# EAGLE library part XC7Z010 (library Bits_library_eagle 9x)
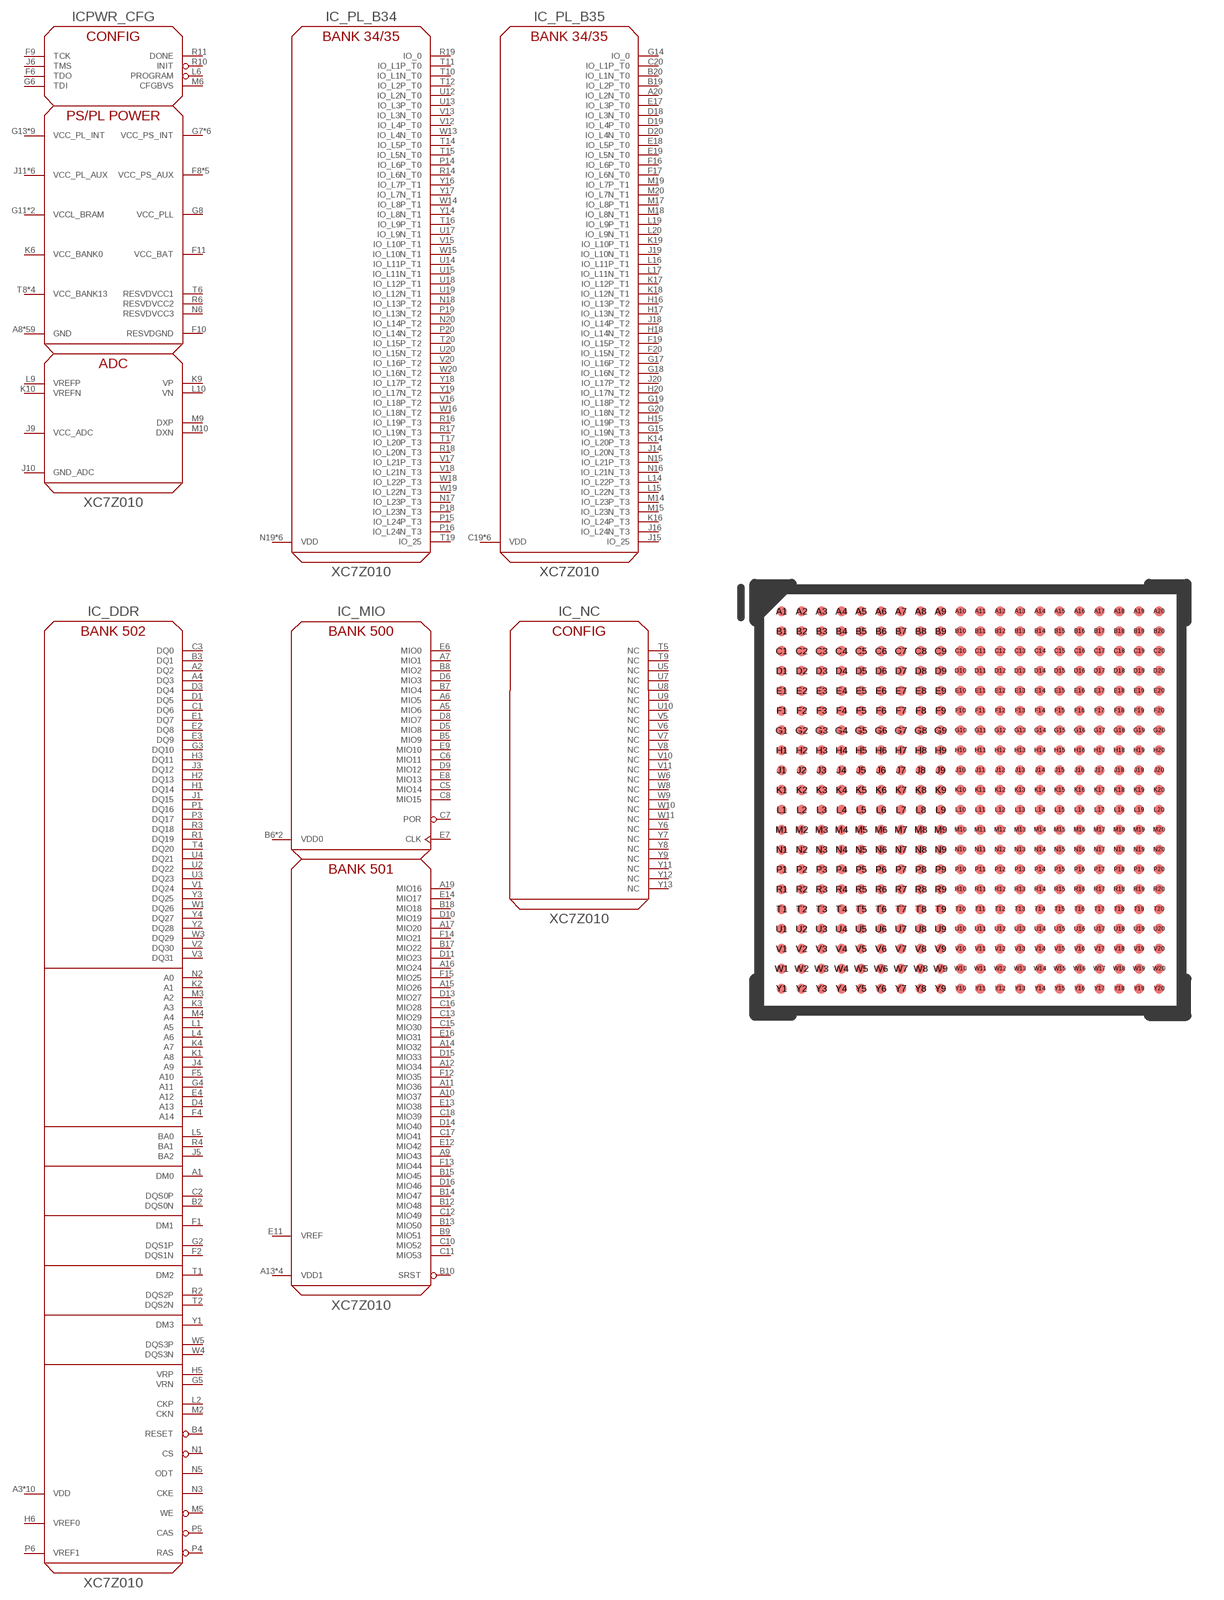
[diagram p84: symbol with the pads of CLG400; footprint CLG400]

Designator prefix IC; gates PWR_CFG=XC7Z010 _PL_B34=XC7Z010-PL_IO34 _DDR=XC7Z010-PS_DDR _MIO=XC7Z010-PS_MIO _PL_B35=XC7Z010-PL_IO34 _NC=XC7Z010-NC

## XC7Z010CLG400  [CLG400]
A1  _DDR:DM0
A2  _DDR:DQ2
A3  _DDR:VDD  pwr
A4  _DDR:DQ3
A5  _MIO:MIO6
A6  _MIO:MIO5
A7  _MIO:MIO1
A8  PWR_CFG:GND  pwr
A9  _MIO:MIO43
A10  _MIO:MIO37
A11  _MIO:MIO36
A12  _MIO:MIO34
A13  _MIO:VDD1  pwr
A14  _MIO:MIO32
A15  _MIO:MIO26
A16  _MIO:MIO24
A17  _MIO:MIO20
A18  PWR_CFG:GND  pwr
A19  _MIO:MIO16
A20  _PL_B35:IO_L2N_T0
B1  PWR_CFG:GND  pwr
B2  _DDR:DQS0N
B3  _DDR:DQ1
B4  _DDR:RESET
B5  _MIO:MIO9
B6  _MIO:VDD0  pwr
B7  _MIO:MIO4
B8  _MIO:MIO2
B9  _MIO:MIO51
B10  _MIO:SRST
B11  PWR_CFG:GND  pwr
B12  _MIO:MIO48
B13  _MIO:MIO50
B14  _MIO:MIO47
B15  _MIO:MIO45
B16  _MIO:VDD1  pwr
B17  _MIO:MIO22
B18  _MIO:MIO18
B19  _PL_B35:IO_L2P_T0
B20  _PL_B35:IO_L1N_T0
C1  _DDR:DQ6
C2  _DDR:DQS0P
C3  _DDR:DQ0
C4  PWR_CFG:GND  pwr
C5  _MIO:MIO14
C6  _MIO:MIO11
C7  _MIO:POR
C8  _MIO:MIO15
C9  PWR_CFG:GND  pwr
C10  _MIO:MIO52
C11  _MIO:MIO53
C12  _MIO:MIO49
C13  _MIO:MIO29
C14  PWR_CFG:GND  pwr
C15  _MIO:MIO30
C16  _MIO:MIO28
C17  _MIO:MIO41
C18  _MIO:MIO39
C19  _PL_B35:VDD  pwr
C20  _PL_B35:IO_L1P_T0
D1  _DDR:DQ5
D2  _DDR:VDD  pwr
D3  _DDR:DQ4
D4  _DDR:A13
D5  _MIO:MIO8
D6  _MIO:MIO3
D7  _MIO:VDD0  pwr
D8  _MIO:MIO7
D9  _MIO:MIO12
D10  _MIO:MIO19
D11  _MIO:MIO23
D12  _MIO:VDD1  pwr
D13  _MIO:MIO27
D14  _MIO:MIO40
D15  _MIO:MIO33
D16  _MIO:MIO46
D17  PWR_CFG:GND  pwr
D18  _PL_B35:IO_L3N_T0
D19  _PL_B35:IO_L4P_T0
D20  _PL_B35:IO_L4N_T0
E1  _DDR:DQ7
E2  _DDR:DQ8
E3  _DDR:DQ9
E4  _DDR:A12
E5  _DDR:VDD  pwr
E6  _MIO:MIO0
E7  _MIO:CLK
E8  _MIO:MIO13
E9  _MIO:MIO10
E10  PWR_CFG:GND  pwr
E11  _MIO:VREF  pwr
E12  _MIO:MIO42
E13  _MIO:MIO38
E14  _MIO:MIO17
E15  _MIO:VDD1  pwr
E16  _MIO:MIO31
E17  _PL_B35:IO_L3P_T0
E18  _PL_B35:IO_L5P_T0
E19  _PL_B35:IO_L5N_T0
E20  PWR_CFG:GND  pwr
F1  _DDR:DM1
F2  _DDR:DQS1N
F3  PWR_CFG:GND  pwr
F4  _DDR:A14
F5  _DDR:A10
F6  PWR_CFG:TDO
F7  PWR_CFG:GND  pwr
F8  PWR_CFG:VCC_PS_AUX  pwr
F9  PWR_CFG:TCK
F10  PWR_CFG:RESVDGND  pwr
F11  PWR_CFG:VCC_BAT  pwr
F12  _MIO:MIO35
F13  _MIO:MIO44
F14  _MIO:MIO21
F15  _MIO:MIO25
F16  _PL_B35:IO_L6P_T0
F17  _PL_B35:IO_L6N_T0
F18  _PL_B35:VDD  pwr
F19  _PL_B35:IO_L15P_T2
F20  _PL_B35:IO_L15N_T2
G1  _DDR:VDD  pwr
G2  _DDR:DQS1P
G3  _DDR:DQ10
G4  _DDR:A11
G5  _DDR:VRN
G6  PWR_CFG:TDI
G7  PWR_CFG:VCC_PS_INT  pwr
G8  PWR_CFG:VCC_PLL  pwr
G9  PWR_CFG:VCC_PS_AUX  pwr
G10  PWR_CFG:GND  pwr
G11  PWR_CFG:VCCL_BRAM  pwr
G12  PWR_CFG:GND  pwr
G13  PWR_CFG:VCC_PL_INT  pwr
G14  _PL_B35:IO_0
G15  _PL_B35:IO_L19N_T3
G16  PWR_CFG:GND  pwr
G17  _PL_B35:IO_L16P_T2
G18  _PL_B35:IO_L16N_T2
G19  _PL_B35:IO_L18P_T2
G20  _PL_B35:IO_L18N_T2
H1  _DDR:DQ14
H2  _DDR:DQ13
H3  _DDR:DQ11
H4  _DDR:VDD  pwr
H5  _DDR:VRP
H6  _DDR:VREF0  pwr
H7  PWR_CFG:GND  pwr
H8  PWR_CFG:VCC_PS_AUX  pwr
H9  PWR_CFG:GND  pwr
H10  PWR_CFG:VCCL_BRAM  pwr
H11  PWR_CFG:GND  pwr
H12  PWR_CFG:VCC_PL_INT  pwr
H13  PWR_CFG:GND  pwr
H14  _PL_B35:VDD  pwr
H15  _PL_B35:IO_L19P_T3
H16  _PL_B35:IO_L13P_T2
H17  _PL_B35:IO_L13N_T2
H18  _PL_B35:IO_L14N_T2
H19  PWR_CFG:GND  pwr
H20  _PL_B35:IO_L17N_T2
J1  _DDR:DQ15
J2  PWR_CFG:GND  pwr
J3  _DDR:DQ12
J4  _DDR:A9
J5  _DDR:BA2
J6  PWR_CFG:TMS
J7  PWR_CFG:VCC_PS_INT  pwr
J8  PWR_CFG:GND  pwr
J9  PWR_CFG:VCC_ADC  pwr
J10  PWR_CFG:GND_ADC  pwr
J11  PWR_CFG:VCC_PL_AUX  pwr
J12  PWR_CFG:GND  pwr
J13  PWR_CFG:VCC_PL_INT  pwr
J14  _PL_B35:IO_L20N_T3
J15  _PL_B35:IO_25
J16  _PL_B35:IO_L24N_T3
J17  _PL_B35:VDD  pwr
J18  _PL_B35:IO_L14P_T2
J19  _PL_B35:IO_L10N_T1
J20  _PL_B35:IO_L17P_T2
K1  _DDR:A8
K2  _DDR:A1
K3  _DDR:A3
K4  _DDR:A7
K5  PWR_CFG:GND  pwr
K6  PWR_CFG:VCC_BANK0  pwr
K7  PWR_CFG:GND  pwr
K8  PWR_CFG:VCC_PS_AUX  pwr
K9  PWR_CFG:VP
K10  PWR_CFG:VREFN
K11  PWR_CFG:GND  pwr
K12  PWR_CFG:VCC_PL_INT  pwr
K13  PWR_CFG:GND  pwr
K14  _PL_B35:IO_L20P_T3
K15  PWR_CFG:GND  pwr
K16  _PL_B35:IO_L24P_T3
K17  _PL_B35:IO_L12P_T1
K18  _PL_B35:IO_L12N_T1
K19  _PL_B35:IO_L10P_T1
K20  _PL_B35:VDD  pwr
L1  _DDR:A5
L2  _DDR:CKP
L3  _DDR:VDD  pwr
L4  _DDR:A6
L5  _DDR:BA0
L6  PWR_CFG:PROGRAM
L7  PWR_CFG:VCC_PS_INT  pwr
L8  PWR_CFG:GND  pwr
L9  PWR_CFG:VREFP
L10  PWR_CFG:VN
L11  PWR_CFG:VCC_PL_AUX  pwr
L12  PWR_CFG:GND  pwr
L13  PWR_CFG:VCC_PL_INT  pwr
L14  _PL_B35:IO_L22P_T3
L15  _PL_B35:IO_L22N_T3
L16  _PL_B35:IO_L11P_T1
L17  _PL_B35:IO_L11N_T1
L18  PWR_CFG:GND  pwr
L19  _PL_B35:IO_L9P_T1
L20  _PL_B35:IO_L9N_T1
M1  PWR_CFG:GND  pwr
M2  _DDR:CKN
M3  _DDR:A2
M4  _DDR:A4
M5  _DDR:WE
M6  PWR_CFG:CFGBVS
M7  PWR_CFG:GND  pwr
M8  PWR_CFG:VCC_PS_AUX  pwr
M9  PWR_CFG:DXP
M10  PWR_CFG:DXN
M11  PWR_CFG:GND  pwr
M12  PWR_CFG:VCC_PL_INT  pwr
M13  PWR_CFG:GND  pwr
M14  _PL_B35:IO_L23P_T3
M15  _PL_B35:IO_L23N_T3
M16  _PL_B35:VDD  pwr
M17  _PL_B35:IO_L8P_T1
M18  _PL_B35:IO_L8N_T1
M19  _PL_B35:IO_L7P_T1
M20  _PL_B35:IO_L7N_T1
N1  _DDR:CS
N2  _DDR:A0
N3  _DDR:CKE
N4  PWR_CFG:GND  pwr
N5  _DDR:ODT
N6  PWR_CFG:RESVDVCC3  pwr
N7  PWR_CFG:VCC_PS_INT  pwr
N8  PWR_CFG:GND  pwr
N9  PWR_CFG:VCC_PL_AUX  pwr
N10  PWR_CFG:GND  pwr
N11  PWR_CFG:VCC_PL_AUX  pwr
N12  PWR_CFG:GND  pwr
N13  PWR_CFG:VCC_PL_INT  pwr
N14  PWR_CFG:GND  pwr
N15  _PL_B35:IO_L21P_T3
N16  _PL_B35:IO_L21N_T3
N17  _PL_B34:IO_L23P_T3
N18  _PL_B34:IO_L13P_T2
N19  _PL_B34:VDD  pwr
N20  _PL_B34:IO_L14P_T2
P1  _DDR:DQ16
P2  _DDR:VDD  pwr
P3  _DDR:DQ17
P4  _DDR:RAS
P5  _DDR:CAS
P6  _DDR:VREF1  pwr
P7  PWR_CFG:GND  pwr
P8  PWR_CFG:VCC_PS_INT  pwr
P9  PWR_CFG:GND  pwr
P10  PWR_CFG:VCC_PL_AUX  pwr
P11  PWR_CFG:GND  pwr
P12  PWR_CFG:VCC_PL_INT  pwr
P13  PWR_CFG:GND  pwr
P14  _PL_B34:IO_L6P_T0
P15  _PL_B34:IO_L24P_T3
P16  _PL_B34:IO_L24N_T3
P17  PWR_CFG:GND  pwr
P18  _PL_B34:IO_L23N_T3
P19  _PL_B34:IO_L13N_T2
P20  _PL_B34:IO_L14N_T2
R1  _DDR:DQ19
R2  _DDR:DQS2P
R3  _DDR:DQ18
R4  _DDR:BA1
R5  _DDR:VDD  pwr
R6  PWR_CFG:RESVDVCC2  pwr
R7  PWR_CFG:VCC_PS_INT  pwr
R8  PWR_CFG:GND  pwr
R9  PWR_CFG:VCC_PL_AUX  pwr
R10  PWR_CFG:INIT
R11  PWR_CFG:DONE
R12  PWR_CFG:GND  pwr
R13  PWR_CFG:VCC_PL_INT  pwr
R14  _PL_B34:IO_L6N_T0
R15  _PL_B34:VDD  pwr
R16  _PL_B34:IO_L19P_T3
R17  _PL_B34:IO_L19N_T3
R18  _PL_B34:IO_L20N_T3
R19  _PL_B34:IO_0
R20  PWR_CFG:GND  pwr
T1  _DDR:DM2
T2  _DDR:DQS2N
T3  PWR_CFG:GND  pwr
T4  _DDR:DQ20
T5  _NC:NC  nc
T6  PWR_CFG:RESVDVCC1  pwr
T7  PWR_CFG:GND  pwr
T8  PWR_CFG:VCC_BANK13  pwr
T9  _NC:NC  nc
T10  _PL_B34:IO_L1N_T0
T11  _PL_B34:IO_L1P_T0
T12  _PL_B34:IO_L2P_T0
T13  PWR_CFG:GND  pwr
T14  _PL_B34:IO_L5P_T0
T15  _PL_B34:IO_L5N_T0
T16  _PL_B34:IO_L9P_T1
T17  _PL_B34:IO_L20P_T3
T18  _PL_B34:VDD  pwr
T19  _PL_B34:IO_25
T20  _PL_B34:IO_L15P_T2
U1  _DDR:VDD  pwr
U2  _DDR:DQ22
U3  _DDR:DQ23
U4  _DDR:DQ21
U5  _NC:NC  nc
U6  PWR_CFG:GND  pwr
U7  _NC:NC  nc
U8  _NC:NC  nc
U9  _NC:NC  nc
U10  _NC:NC  nc
U11  PWR_CFG:VCC_BANK13  pwr
U12  _PL_B34:IO_L2N_T0
U13  _PL_B34:IO_L3P_T0
U14  _PL_B34:IO_L11P_T1
U15  _PL_B34:IO_L11N_T1
U16  PWR_CFG:GND  pwr
U17  _PL_B34:IO_L9N_T1
U18  _PL_B34:IO_L12P_T1
U19  _PL_B34:IO_L12N_T1
U20  _PL_B34:IO_L15N_T2
V1  _DDR:DQ24
V2  _DDR:DQ30
V3  _DDR:DQ31
V4  _DDR:VDD  pwr
V5  _NC:NC  nc
V6  _NC:NC  nc
V7  _NC:NC  nc
V8  _NC:NC  nc
V9  PWR_CFG:GND  pwr
V10  _NC:NC  nc
V11  _NC:NC  nc
V12  _PL_B34:IO_L4P_T0
V13  _PL_B34:IO_L3N_T0
V14  _PL_B34:VDD  pwr
V15  _PL_B34:IO_L10P_T1
V16  _PL_B34:IO_L18P_T2
V17  _PL_B34:IO_L21P_T3
V18  _PL_B34:IO_L21N_T3
V19  PWR_CFG:GND  pwr
V20  _PL_B34:IO_L16P_T2
W1  _DDR:DQ26
W2  PWR_CFG:GND  pwr
W3  _DDR:DQ29
W4  _DDR:DQS3N
W5  _DDR:DQS3P
W6  _NC:NC  nc
W7  PWR_CFG:VCC_BANK13  pwr
W8  _NC:NC  nc
W9  _NC:NC  nc
W10  _NC:NC  nc
W11  _NC:NC  nc
W12  PWR_CFG:GND  pwr
W13  _PL_B34:IO_L4N_T0
W14  _PL_B34:IO_L8P_T1
W15  _PL_B34:IO_L10N_T1
W16  _PL_B34:IO_L18N_T2
W17  _PL_B34:VDD  pwr
W18  _PL_B34:IO_L22P_T3
W19  _PL_B34:IO_L22N_T3
W20  _PL_B34:IO_L16N_T2
Y1  _DDR:DM3
Y2  _DDR:DQ28
Y3  _DDR:DQ25
Y4  _DDR:DQ27
Y5  PWR_CFG:GND  pwr
Y6  _NC:NC  nc
Y7  _NC:NC  nc
Y8  _NC:NC  nc
Y9  _NC:NC  nc
Y10  PWR_CFG:VCC_BANK13  pwr
Y11  _NC:NC  nc
Y12  _NC:NC  nc
Y13  _NC:NC  nc
Y14  _PL_B34:IO_L8N_T1
Y15  PWR_CFG:GND  pwr
Y16  _PL_B34:IO_L7P_T1
Y17  _PL_B34:IO_L7N_T1
Y18  _PL_B34:IO_L17P_T2
Y19  _PL_B34:IO_L17N_T2
Y20  _PL_B34:VDD  pwr

## Footprint CLG400 (pad centres in mm)
smd 0.4 x 0.4: A1 -7.6,7.6; A2 -6.8,7.6; A3 -6,7.6; A4 -5.2,7.6; A5 -4.4,7.6; A6 -3.6,7.6; A7 -2.8,7.6; A8 -2,7.6; A9 -1.2,7.6; A10 -0.4,7.6; A11 0.4,7.6; A12 1.2,7.6; A13 2,7.6; A14 2.8,7.6; A15 3.6,7.6; A16 4.4,7.6; A17 5.2,7.6; A18 6,7.6; A19 6.8,7.6; A20 7.6,7.6; B1 -7.6,6.8; B2 -6.8,6.8; B3 -6,6.8; B4 -5.2,6.8; B5 -4.4,6.8; B6 -3.6,6.8; B7 -2.8,6.8; B8 -2,6.8; B9 -1.2,6.8; B10 -0.4,6.8; B11 0.4,6.8; B12 1.2,6.8; B13 2,6.8; B14 2.8,6.8; B15 3.6,6.8; B16 4.4,6.8; B17 5.2,6.8; B18 6,6.8; B19 6.8,6.8; B20 7.6,6.8; C1 -7.6,6; C2 -6.8,6; C3 -6,6; C4 -5.2,6; C5 -4.4,6; C6 -3.6,6; C7 -2.8,6; C8 -2,6; C9 -1.2,6; C10 -0.4,6; C11 0.4,6; C12 1.2,6; C13 2,6; C14 2.8,6; C15 3.6,6; C16 4.4,6; C17 5.2,6; C18 6,6; C19 6.8,6; C20 7.6,6; D1 -7.6,5.2; D2 -6.8,5.2; D3 -6,5.2; D4 -5.2,5.2; D5 -4.4,5.2; D6 -3.6,5.2; D7 -2.8,5.2; D8 -2,5.2; D9 -1.2,5.2; D10 -0.4,5.2; D11 0.4,5.2; D12 1.2,5.2; D13 2,5.2; D14 2.8,5.2; D15 3.6,5.2; D16 4.4,5.2; D17 5.2,5.2; D18 6,5.2; D19 6.8,5.2; D20 7.6,5.2; E1 -7.6,4.4; E2 -6.8,4.4; E3 -6,4.4; E4 -5.2,4.4; E5 -4.4,4.4; E6 -3.6,4.4; E7 -2.8,4.4; E8 -2,4.4; E9 -1.2,4.4; E10 -0.4,4.4; E11 0.4,4.4; E12 1.2,4.4; E13 2,4.4; E14 2.8,4.4; E15 3.6,4.4; E16 4.4,4.4; E17 5.2,4.4; E18 6,4.4; E19 6.8,4.4; E20 7.6,4.4; F1 -7.6,3.6; F2 -6.8,3.6; F3 -6,3.6; F4 -5.2,3.6; F5 -4.4,3.6; F6 -3.6,3.6; F7 -2.8,3.6; F8 -2,3.6; F9 -1.2,3.6; F10 -0.4,3.6; F11 0.4,3.6; F12 1.2,3.6; F13 2,3.6; F14 2.8,3.6; F15 3.6,3.6; F16 4.4,3.6; F17 5.2,3.6; F18 6,3.6; F19 6.8,3.6; F20 7.6,3.6; G1 -7.6,2.8; G2 -6.8,2.8; G3 -6,2.8; G4 -5.2,2.8; G5 -4.4,2.8; G6 -3.6,2.8; G7 -2.8,2.8; G8 -2,2.8; G9 -1.2,2.8; G10 -0.4,2.8; G11 0.4,2.8; G12 1.2,2.8; G13 2,2.8; G14 2.8,2.8; G15 3.6,2.8; G16 4.4,2.8; G17 5.2,2.8; G18 6,2.8; G19 6.8,2.8; G20 7.6,2.8; H1 -7.6,2; H2 -6.8,2; H3 -6,2; H4 -5.2,2; H5 -4.4,2; H6 -3.6,2; H7 -2.8,2; H8 -2,2; H9 -1.2,2; H10 -0.4,2; H11 0.4,2; H12 1.2,2; H13 2,2; H14 2.8,2; H15 3.6,2; H16 4.4,2; H17 5.2,2; H18 6,2; H19 6.8,2; H20 7.6,2; J1 -7.6,1.2; J2 -6.8,1.2; J3 -6,1.2; J4 -5.2,1.2; J5 -4.4,1.2; J6 -3.6,1.2; J7 -2.8,1.2; J8 -2,1.2; J9 -1.2,1.2; J10 -0.4,1.2; J11 0.4,1.2; J12 1.2,1.2; J13 2,1.2; J14 2.8,1.2; J15 3.6,1.2; J16 4.4,1.2; J17 5.2,1.2; J18 6,1.2; J19 6.8,1.2; J20 7.6,1.2; K1 -7.6,0.4; K2 -6.8,0.4; K3 -6,0.4; K4 -5.2,0.4; K5 -4.4,0.4; K6 -3.6,0.4; K7 -2.8,0.4; K8 -2,0.4; K9 -1.2,0.4; K10 -0.4,0.4; K11 0.4,0.4; K12 1.2,0.4; K13 2,0.4; K14 2.8,0.4; K15 3.6,0.4; K16 4.4,0.4; K17 5.2,0.4; K18 6,0.4; K19 6.8,0.4; K20 7.6,0.4; L1 -7.6,-0.4; L2 -6.8,-0.4; L3 -6,-0.4; L4 -5.2,-0.4; L5 -4.4,-0.4; L6 -3.6,-0.4; L7 -2.8,-0.4; L8 -2,-0.4; L9 -1.2,-0.4; L10 -0.4,-0.4; L11 0.4,-0.4; L12 1.2,-0.4; L13 2,-0.4; L14 2.8,-0.4; L15 3.6,-0.4; L16 4.4,-0.4; L17 5.2,-0.4; L18 6,-0.4; L19 6.8,-0.4; L20 7.6,-0.4; M1 -7.6,-1.2; M2 -6.8,-1.2; M3 -6,-1.2; M4 -5.2,-1.2; M5 -4.4,-1.2; M6 -3.6,-1.2; M7 -2.8,-1.2; M8 -2,-1.2; M9 -1.2,-1.2; M10 -0.4,-1.2; M11 0.4,-1.2; M12 1.2,-1.2; M13 2,-1.2; M14 2.8,-1.2; M15 3.6,-1.2; M16 4.4,-1.2; M17 5.2,-1.2; M18 6,-1.2; M19 6.8,-1.2; M20 7.6,-1.2; N1 -7.6,-2; N2 -6.8,-2; N3 -6,-2; N4 -5.2,-2; N5 -4.4,-2; N6 -3.6,-2; N7 -2.8,-2; N8 -2,-2; N9 -1.2,-2; N10 -0.4,-2; N11 0.4,-2; N12 1.2,-2; N13 2,-2; N14 2.8,-2; N15 3.6,-2; N16 4.4,-2; N17 5.2,-2; N18 6,-2; N19 6.8,-2; N20 7.6,-2; P1 -7.6,-2.8; P2 -6.8,-2.8; P3 -6,-2.8; P4 -5.2,-2.8; P5 -4.4,-2.8; P6 -3.6,-2.8; P7 -2.8,-2.8; P8 -2,-2.8; P9 -1.2,-2.8; P10 -0.4,-2.8; P11 0.4,-2.8; P12 1.2,-2.8; P13 2,-2.8; P14 2.8,-2.8; P15 3.6,-2.8; P16 4.4,-2.8; P17 5.2,-2.8; P18 6,-2.8; P19 6.8,-2.8; P20 7.6,-2.8; R1 -7.6,-3.6; R2 -6.8,-3.6; R3 -6,-3.6; R4 -5.2,-3.6; R5 -4.4,-3.6; R6 -3.6,-3.6; R7 -2.8,-3.6; R8 -2,-3.6; R9 -1.2,-3.6; R10 -0.4,-3.6; R11 0.4,-3.6; R12 1.2,-3.6; R13 2,-3.6; R14 2.8,-3.6; R15 3.6,-3.6; R16 4.4,-3.6; R17 5.2,-3.6; R18 6,-3.6; R19 6.8,-3.6; R20 7.6,-3.6; T1 -7.6,-4.4; T2 -6.8,-4.4; T3 -6,-4.4; T4 -5.2,-4.4; T5 -4.4,-4.4; T6 -3.6,-4.4; T7 -2.8,-4.4; T8 -2,-4.4; T9 -1.2,-4.4; T10 -0.4,-4.4; T11 0.4,-4.4; T12 1.2,-4.4; T13 2,-4.4; T14 2.8,-4.4; T15 3.6,-4.4; T16 4.4,-4.4; T17 5.2,-4.4; T18 6,-4.4; T19 6.8,-4.4; T20 7.6,-4.4; U1 -7.6,-5.2; U2 -6.8,-5.2; U3 -6,-5.2; U4 -5.2,-5.2; U5 -4.4,-5.2; U6 -3.6,-5.2; U7 -2.8,-5.2; U8 -2,-5.2; U9 -1.2,-5.2; U10 -0.4,-5.2; U11 0.4,-5.2; U12 1.2,-5.2; U13 2,-5.2; U14 2.8,-5.2; U15 3.6,-5.2; U16 4.4,-5.2; U17 5.2,-5.2; U18 6,-5.2; U19 6.8,-5.2; U20 7.6,-5.2; V1 -7.6,-6; V2 -6.8,-6; V3 -6,-6; V4 -5.2,-6; V5 -4.4,-6; V6 -3.6,-6; V7 -2.8,-6; V8 -2,-6; V9 -1.2,-6; V10 -0.4,-6; V11 0.4,-6; V12 1.2,-6; V13 2,-6; V14 2.8,-6; V15 3.6,-6; V16 4.4,-6; V17 5.2,-6; V18 6,-6; V19 6.8,-6; V20 7.6,-6; W1 -7.6,-6.8; W2 -6.8,-6.8; W3 -6,-6.8; W4 -5.2,-6.8; W5 -4.4,-6.8; W6 -3.6,-6.8; W7 -2.8,-6.8; W8 -2,-6.8; W9 -1.2,-6.8; W10 -0.4,-6.8; W11 0.4,-6.8; W12 1.2,-6.8; W13 2,-6.8; W14 2.8,-6.8; W15 3.6,-6.8; W16 4.4,-6.8; W17 5.2,-6.8; W18 6,-6.8; W19 6.8,-6.8; W20 7.6,-6.8; Y1 -7.6,-7.6; Y2 -6.8,-7.6; Y3 -6,-7.6; Y4 -5.2,-7.6; Y5 -4.4,-7.6; Y6 -3.6,-7.6; Y7 -2.8,-7.6; Y8 -2,-7.6; Y9 -1.2,-7.6; Y10 -0.4,-7.6; Y11 0.4,-7.6; Y12 1.2,-7.6; Y13 2,-7.6; Y14 2.8,-7.6; Y15 3.6,-7.6; Y16 4.4,-7.6; Y17 5.2,-7.6; Y18 6,-7.6; Y19 6.8,-7.6; Y20 7.6,-7.6